# Altium footprint library PCB_Lib.PcbLib: 40 footprints (part 3 of 3)
Each footprint in its own frame and in the unit in brackets; x right, y up, seen from the top. Pads: shape width x height; smd on the part's side, far side on the other; paste and mask are expansions set on the pad; w line width, h text height; cw(c..) or ccw(c..) is an arc to the next point about the centre after c.
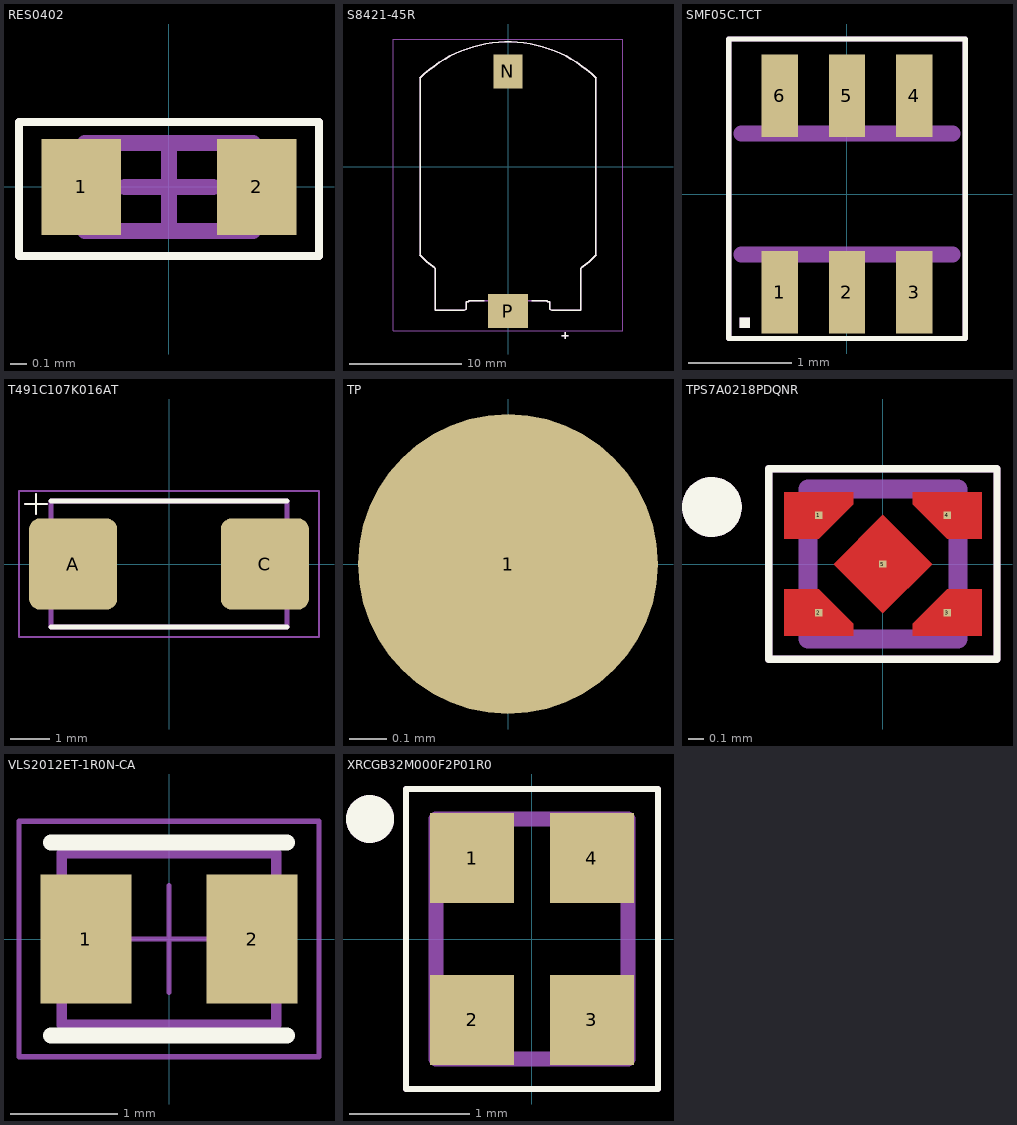
[diagram p2: the footprints below, top view; thin cyan lines are the x and y axes]

## RES0402 [mm] "Chip Resistor, 2-Leads, Body 1.00x0.50mm, IPC Medium Density"
height 0.4
pads (2):
  rect 0.5x0.6 smd: 1(-0.55,0) 2(0.55,0)
Top Overlay:
  lines w0.05: -0.94,-0.432 0.94,-0.432 0.94,0.406 -0.94,0.406 -0.94,-0.432
Mechanical 13:
  lines w0.1: -0.525,-0.275 0.525,-0.275 0.525,0.275 -0.525,0.275 -0.525,-0.275
Mechanical 15:
  lines w0.05: -0.94,-0.432 0.94,-0.432 0.94,0.406 -0.94,0.406 -0.94,-0.432
  lines w0.1: -0.275,0 0.275,0 ; 0,-0.275 0,0.275
3D body "RESC1005X04N.step": height 0.4, standoff 0, extent -0.525,-0.275 0.525,0.275

## S8421-45R [mm]
pads (2):
  rect 2.6x3 smd: N(-0.025,8.5)
  rect 3.6x3 smd: P(-0.025,-12.9)
Top Overlay:
  lines w0.127: -7.91,-7.884 ccw(c-0.025,0) -6.579,-9.021 ; -7.91,7.884 cw(c-0.025,0) 7.859,7.884 ; -7.875,-7.918 -7.875,7.918 ; -6.525,-9.059 -6.525,-12.85 -3.915,-12.85 -3.776,-12.758 -3.775,-12.12 -3.775,-12.07 -3.525,-12.07 -3.525,-11.97 -2.145,-11.97 ; 2.095,-11.97 3.475,-11.97 3.475,-12.07 3.725,-12.07 3.725,-12.109 3.725,-12.12 3.725,-12.758 3.864,-12.85 6.475,-12.85 6.475,-9.059 ; 4.775,-15.1 5.375,-15.1 ; 5.075,-15.4 5.075,-14.8 ; 6.528,-9.021 ccw(c-0.025,0) 7.859,-7.884 ; 7.825,-7.918 7.825,7.918
Mechanical 13:
  lines w0.127: -7.91,-7.884 ccw(c-0.025,0) -6.579,-9.021 ; -7.91,7.884 cw(c-0.025,0) 7.859,7.884 ; -7.875,-7.918 -7.875,7.918 ; -6.525,-9.059 -6.525,-12.85 -3.915,-12.85 -3.776,-12.758 -3.775,-12.12 -3.775,-12.07 -3.525,-12.07 -3.525,-11.97 3.475,-11.97 3.475,-12.07 3.725,-12.07 3.725,-12.109 3.725,-12.12 3.725,-12.758 3.864,-12.85 6.475,-12.85 6.475,-9.059 ; 4.775,-15.1 5.375,-15.1 ; 5.075,-15.4 5.075,-14.8 ; 6.528,-9.021 ccw(c-0.025,0) 7.859,-7.884 ; 7.825,-7.918 7.825,7.918
Mechanical 15:
  lines w0.05: -10.275,-14.65 -10.275,11.4 10.225,11.4 10.225,-14.65 -10.275,-14.65
3D body "S8421-45R.stp": height 5.4, standoff 0, extent -7.696,-14.008 7.899,10.63

## SMF05C.TCT [mm]
pads (6):
  rect 0.35x0.8 smd paste-1 mask+0: 1(-0.65,-0.95) 2(0,-0.95) 3(0.65,-0.95) 4(0.65,0.95) 5(0,0.95) 6(-0.65,0.95)
Top Overlay:
  rectangle: -1.041,-1.295 -0.94,-1.194
  lines w0.05: -1.143,-1.397 1.143,-1.397 1.143,1.499 -1.143,1.499 -1.143,-1.397
Top Paste:
  region: -0.5,-1.327 -0.801,-1.327 -0.801,-0.575 -0.5,-0.575
  region: 0.15,-1.327 -0.15,-1.327 -0.15,-0.575 0.15,-0.575
  region: 0.8,-1.328 0.501,-1.328 0.501,-0.575 0.8,-0.575
  region: 0.8,0.577 0.501,0.577 0.501,1.325 0.8,1.325
  region: 0.15,0.576 -0.15,0.576 -0.15,1.325 0.15,1.325
  region: -0.5,0.577 -0.803,0.577 -0.803,1.325 -0.5,1.325
Top Solder:
  region: -0.425,-1.402 -0.876,-1.402 -0.876,-0.5 -0.425,-0.5
  region: 0.225,-1.401 -0.225,-1.401 -0.225,-0.5 0.225,-0.5
  region: 0.875,-1.401 0.425,-1.401 0.425,-0.5 0.875,-0.5
  region: 0.875,0.501 0.426,0.501 0.426,1.4 0.875,1.4
  region: 0.225,0.5 -0.225,0.5 -0.225,1.4 0.225,1.4
  region: -0.425,0.501 -0.876,0.501 -0.876,1.4 -0.425,1.4
Mechanical 13:
  rectangle: -1.041,-1.295 -0.94,-1.194
  region: 0.15,-1.202 -0.15,-1.202 -0.15,-0.625 0.15,-0.625
  region: -0.5,-1.201 -0.8,-1.201 -0.8,-0.625 -0.5,-0.625
  region: 0.8,-1.202 0.501,-1.202 0.501,-0.625 0.8,-0.625
  region: 0.8,0.626 0.501,0.626 0.501,1.2 0.8,1.2
  region: 0.15,0.626 -0.15,0.626 -0.15,1.2 0.15,1.2
  region: -0.5,0.626 -0.801,0.626 -0.801,1.2 -0.5,1.2
  lines w0.152: -1.022,-0.585 1.022,-0.585 ; -1.022,0.585 1.022,0.585
Mechanical 15:
  lines w0.05: -1.143,-1.397 1.143,-1.397 1.143,1.499 -1.143,1.499 -1.143,-1.397
3D body "BC847BS.STEP": height 1.1, standoff 0, extent -1,-1.075 1,1.025

## T491C107K016AT [mm] "100 µF Molded Tantalum Capacitors 16 V 2312 (6032 Metric) 1Ohm"
pads (2):
  rrect25% 2.24x2.32 smd: A(-2.435,0) C(2.435,0)
Top Overlay:
  lines w0.05: -3.658,1.524 -3.099,1.524 ; -3.378,1.27 -3.378,1.778
  lines w0.127: -3,-1.6 3,-1.6 ; -3,1.6 3,1.6
Mechanical 13:
  lines w0.05: -3.658,1.524 -3.099,1.524 ; -3.378,1.27 -3.378,1.778
  lines w0.127: -3,-1.6 3,-1.6 3,1.6 -3,1.6 -3,-1.6
Mechanical 15:
  lines w0.05: -3.81,-1.85 3.81,-1.85 3.81,1.85 -3.805,1.85 -3.81,-1.85
3D body "T491C107K016ATAUTO.STEP": height 2.8, standoff 0, extent -3,-1.625 3,1.575

## TP [mm]
pads (1):
  round 0.8 smd: 1(0,0)

## TPS7A0218PDQNR [mm] "Linear Voltage Regulator IC Positive Fixed 1 Output 200mA 4-X2SON (1x1)"
pads (5):
  rect 0.05x0.05 smd paste-1 mask+0: 1(-0.43,0.325) 2(-0.43,-0.325) 3(0.43,-0.325) 4(0.43,0.325) 5(0,0)
Top Layer:
  region: 0.33,0 0,-0.33 -0.33,0 0,0.33
  region: -0.2,-0.4 -0.2,-0.48 -0.66,-0.48 -0.66,-0.17 -0.43,-0.17
  region: 0.66,0.17 0.43,0.17 0.2,0.4 0.2,0.48 0.66,0.48
  region: 0.66,-0.48 0.2,-0.48 0.2,-0.4 0.43,-0.17 0.66,-0.17
  region: -0.2,0.4 -0.43,0.17 -0.66,0.17 -0.66,0.48 -0.2,0.48
Top Overlay:
  circle w0.2: c-1.143,0.381 r0.1
  lines w0.05: -0.762,-0.635 0.762,-0.635 0.762,0.635 -0.762,0.635 -0.762,-0.635
Top Paste:
  region: 0.318,0 0,-0.318 -0.318,0 0,0.318
  region: -0.25,-0.4 -0.25,-0.43 -0.65,-0.43 -0.65,-0.22 -0.43,-0.22
  region: -0.25,0.4 -0.43,0.22 -0.65,0.22 -0.65,0.43 -0.25,0.43
  region: 0.65,-0.43 0.25,-0.43 0.25,-0.4 0.43,-0.22 0.65,-0.22
  region: 0.65,0.22 0.43,0.22 0.25,0.4 0.25,0.43 0.65,0.43
Top Solder:
  region: 0.339,0 0,-0.339 -0.339,0 0,0.339
  region: -0.25,-0.4 -0.25,-0.43 -0.61,-0.43 -0.61,-0.22 -0.43,-0.22
  region: 0.61,0.22 0.43,0.22 0.25,0.4 0.25,0.43 0.61,0.43
  region: 0.61,-0.43 0.25,-0.43 0.25,-0.4 0.43,-0.22 0.61,-0.22
  region: -0.25,0.4 -0.43,0.22 -0.61,0.22 -0.61,0.43 -0.25,0.43
Mechanical 13:
  circle w0.2: c-1.143,0.381 r0.1
  lines w0.127: -0.5,-0.5 -0.5,0.5 0.5,0.5 0.5,-0.5 -0.5,-0.5
Mechanical 15:
  lines w0.05: -0.762,-0.635 0.762,-0.635 0.762,0.635 -0.762,0.635 -0.762,-0.635
3D body "step_temp.STEP": height 0.4, standoff 0, extent -0.5,-0.5 0.5,0.5

## VLS2012ET-1R0N-CA [mm] "1 µH Shielded Drum Core, Wirewound Inductor 1.65 A 86mOhm Max Nonstandard"
pads (2):
  rect 0.85x1.2 smd: 1(-0.775,0) 2(0.775,0)
Top Overlay:
  lines w0.15: -1.1,-0.9 1.1,-0.9 ; -1.1,0.9 1.1,0.9
Top 3D Body:
  lines w0.1: -1,-0.8 -1,0.8 1,0.8 1,-0.8 -1,-0.8
Top Designator:
  lines w0.05: -0.5,0 0.5,0 ; 0,-0.5 0,0.5 ; -1.4,-1.1 -1.4,1.1 1.4,1.1 1.4,-1.1 -1.4,-1.1
Top Component Outline:
  lines w0.1: -1,-0.8 -1,0.8 1,0.8 1,-0.8 -1,-0.8
3D body "IndLQS_2010.stp": height 1.01, standoff 0.01, extent -1,-0.8 1,0.824

## XRCGB32M000F2P01R0 [mm] "32 MHz ±20ppm Crystal 8pF 100 Ohms 4-SMD, No Lead"
pads (4):
  rect 0.7x0.75 smd: 1(-0.5,0.675) 2(-0.5,-0.675) 3(0.5,-0.675) 4(0.5,0.675)
Top Overlay:
  circle w0.2: c-1.35,1 r0.1
  lines w0.05: -1.05,-1.25 1.05,-1.25 1.05,1.25 -1.05,1.25 -1.05,-1.25
Mechanical 13:
  circle w0.2: c-1.35,1 r0.1
  lines w0.127: -0.8,-1 -0.8,1 0.8,1 0.8,-1 -0.8,-1
Mechanical 15:
  lines w0.05: -1.05,-1.25 1.05,-1.25 1.05,1.25 -1.05,1.25 -1.05,-1.25
3D body "step_temp.STEP": height 0.7, standoff 0, extent -0.8,-1 0.8,1